# Altium footprint library RCDQLY.PCBLIB: 149 footprints (part 7 of 10)
Each footprint in its own frame and in the unit in brackets; x right, y up, seen from the top. Pads: shape width x height; smd on the part's side, far side on the other; paste and mask are expansions set on the pad; w line width, h text height; cw(c..) or ccw(c..) is an arc to the next point about the centre after c.
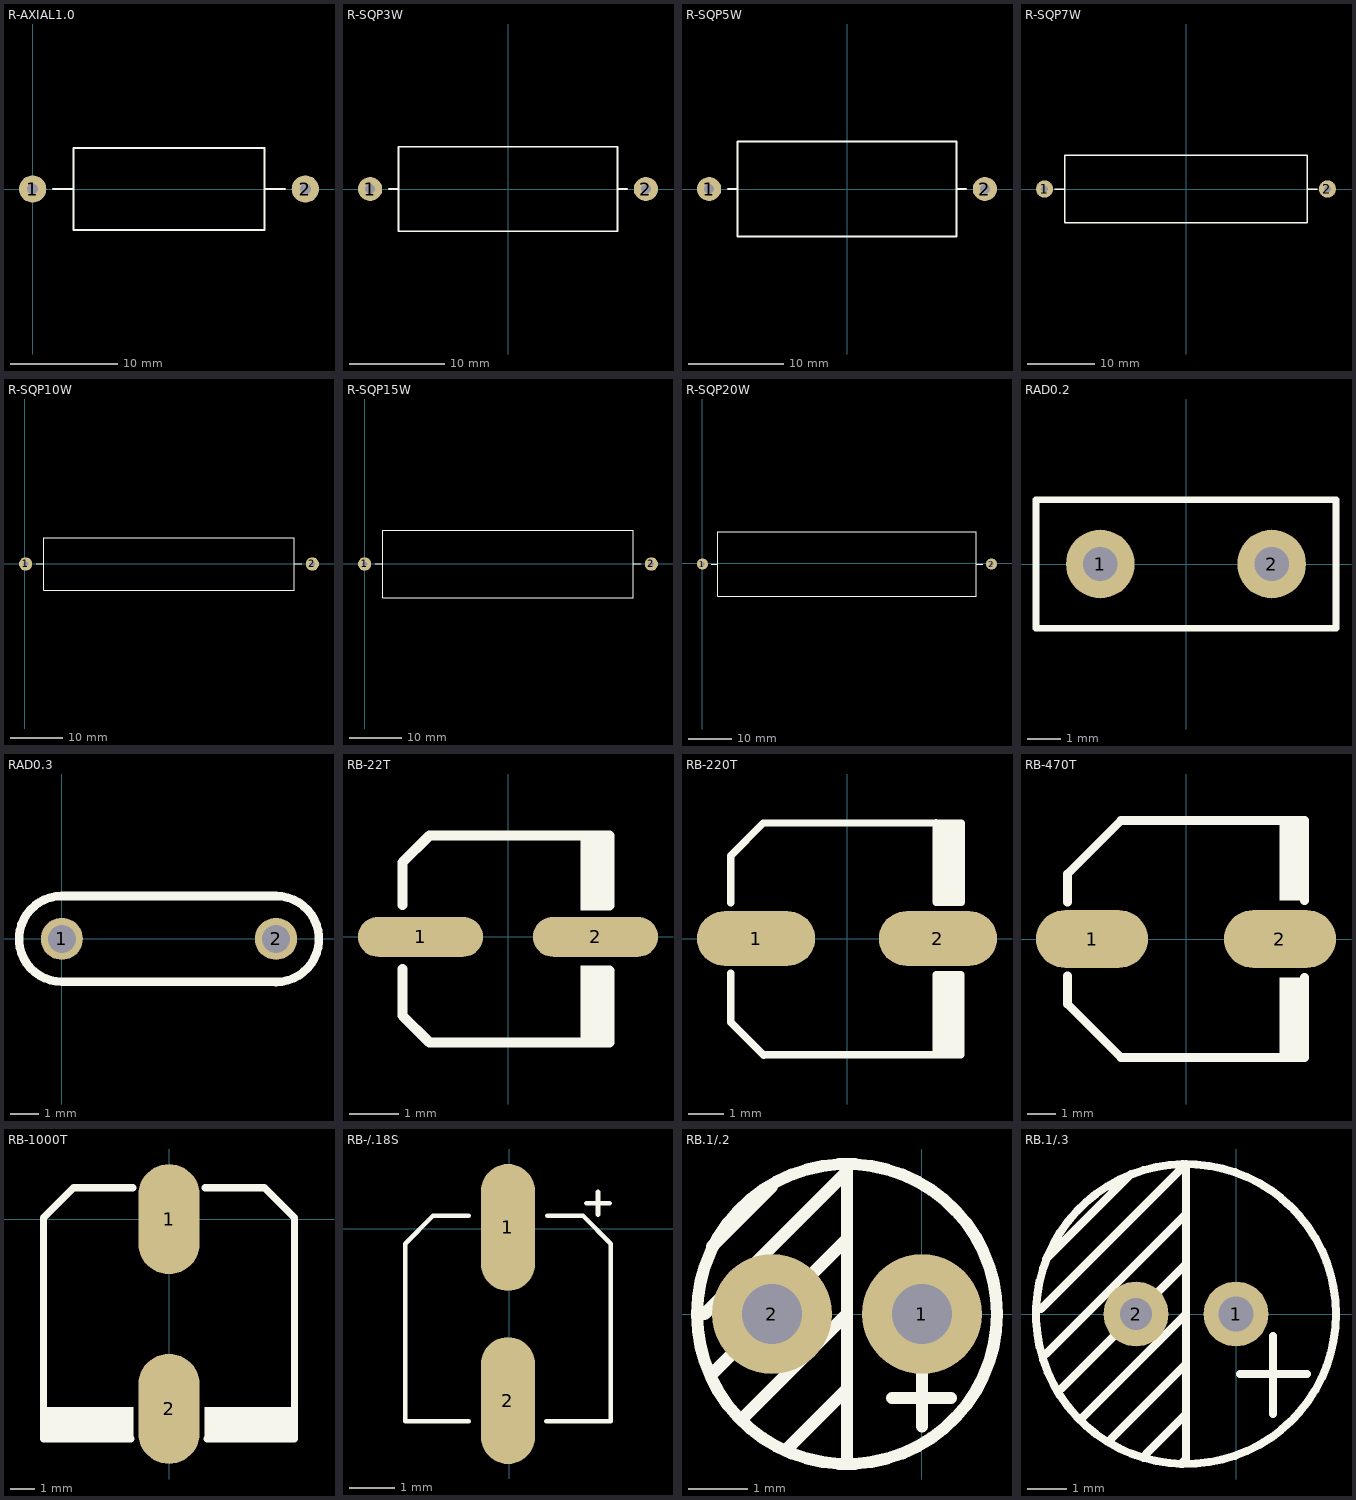
[diagram p6: the footprints below, top view; thin cyan lines are the x and y axes]

## R-AXIAL1.0 [mil]
pads (2):
  round 100 hole 40: 1(0,0) 2(1000,0)
TopOverlay:
  lines w8: 75,0 150,0 ; 850,0 925,0 ; 150,-150 150,150 850,150 850,-150 150,-150

## R-SQP3W [mil]
pads (2):
  round 100 hole 40: 1(-570.87,0) 2(570.87,0)
TopOverlay:
  lines w8: -492.13,0 -452.76,0 ; 452.76,0 492.13,0 ; -452.76,-175 452.76,-175 452.76,175 -452.76,175 -452.76,-175

## R-SQP5W [mil]
pads (2):
  round 100 hole 40: 1(-570.87,0) 2(570.87,0)
TopOverlay:
  lines w8: -492.13,0 -452.76,0 ; 452.76,0 492.13,0 ; -452.76,-196.85 -452.76,196.85 452.76,196.85 452.76,-196.85 -452.76,-196.85

## R-SQP7W [mil]
pads (2):
  round 100 hole 40: 1(-826.77,0) 2(826.77,0)
TopOverlay:
  lines w8: -767.72,0 -708.66,0 ; 708.66,0 767.72,0 ; -708.66,-196.85 708.66,-196.85 708.66,196.85 -708.66,196.85 -708.66,-196.85

## R-SQP10W [mil]
pads (2):
  round 100 hole 40: 1(4.82,-2.5) 2(2170.18,-2.5)
TopOverlay:
  lines w8: 83.56,-2.5 142.62,-2.5 ; 2032.38,-2.5 2091.44,-2.5 ; 142.62,-199.35 142.62,194.35 2032.38,194.35 2032.38,-199.35 142.62,-199.35

## R-SQP15W [mil]
pads (2):
  round 100 hole 40: 1(-0.18,-2.5) 2(2165.18,-2.5)
TopOverlay:
  lines w8: 78.56,-2.5 137.62,-2.5 ; 2027.38,-2.5 2086.44,-2.5 ; 137.62,-258.41 137.62,253.41 2027.38,253.41 2027.38,-258.41 137.62,-258.41

## R-SQP20W [mil]
pads (2):
  round 100 hole 40: 1(3.6,-5) 2(2641.4,-5)
TopOverlay:
  lines w8: 82.34,-5 141.4,-5 ; 2503.6,-5 2562.66,-5 ; 141.4,-300.28 141.4,290.28 2503.6,290.28 2503.6,-300.28 141.4,-300.28

## RAD0.2 [mil]
pads (2):
  round 80 hole 40: 1(-100,0) 2(100,0)
TopOverlay:
  lines w8: -175,-75 175,-75 175,75 -175,75 -175,-75

## RAD0.3 [mm]
pads (2):
  round 1.5 hole 1: 1(0,0) 2(7.62,0)
TopOverlay:
  lines w0.305: 7.62,-1.536 ccw(c7.62,-0.006) 7.62,1.524 0,1.524 ccw(c0,0) 0,-1.524 7.62,-1.524

## RB-22T [mil]
pads (2):
  oval 100x32 smd: 1(-70,0) 2(70,0)
TopOverlay:
  region: 81,-23 58,-23 58,-84.35 81,-84.35
  region: 81,81 58,81 58,21 81,21
  lines w8: -84.35,-25.65 -84.35,-63 -63,-84.35 81,-84.35 81,-27 ; -84.35,25.65 -84.35,59.65 -63,81 81,81 81,25

## RB-220T [mil]
pads (2):
  oval 130x60 smd: 1(-100,0) 2(100,0)
TopOverlay:
  region: 125.58,127.41 98,127.41 98,36 125.58,36
  region: 125.58,-36 98,-36 98,-128.5 125.58,-128.5
  lines w8: -128,-38 -128,-92 -91.51,-128.41 ; -128,39 -128,91 -92,127 126,127 126,40 ; -91,-128 125,-128 125,-40 ; 98,-128 98,-40 ; 98,40 98,127.41

## RB-470T [mil]
pads (2):
  oval 155x80 smd: 1(-130,0) 2(130,0)
TopOverlay:
  region: 129,164 129,53 164,53 164,164
  region: 164,-164 164,-53 129,-53 129,-164
  lines w12: -164,-51 -164,-90 -90,-164 164,-164 164,-53 ; -164,51 -164,90 -90,164 164,164 164,53

## RB-1000T [mil]
height 450
pads (2):
  oval 100x180 smd: 1(0,0) 2(0,-310)
TopOverlay:
  rectangle: -202.75,-358.11 -58,-307.17
  region: 202.75,-307.17 58,-307.17 58,-358.11 202.75,-358.11
  lines w12: -62,-359 -205,-359 -205,2 -156,51 -59,51 ; 59,51 156,51 205,2 205,-359 62,-359

## RB-/.18S [mil]
height 150
pads (2):
  oval 47x110 smd: 1(-1,1) 2(-1,-149)
TopOverlay:
  lines w4: -35,-167 -90,-167 -90,-13 -66,11 -35,11 ; 32,-167 88,-167 88,-13 64,11 33,11 ; 67,22 87,22 ; 77,12 77,32

## RB.1/.2 [mil]
pads (2):
  round 80 hole 40: 1(0,0) 2(-100,0)
TopOverlay:
  circle w8: c-50,0 r100
  lines w8: -145,0 -50,95 -50,-95 ; -140,-40 -50,50 ; -140,45 -100,85 ; -120,-70 -50,0 ; -90,-90 -50,-50 ; -20,-56 19.37,-56 ; 0,-75 0,-35

## RB.1/.3 [mil]
pads (2):
  round 65 hole 35: 1(0,0)
  round 65 hole 32: 2(-100,0)
TopOverlay:
  circle w8: c-50,0 r150
  lines w8: -195,5 -50,150 -50,-145 -55,-150 ; -190,-40 -50,100 ; -190,55 -105,140 ; -175,-75 -50,50 ; -155,-105 -50,0 ; -125,-125 -50,-50 ; -90,-140 -50,-100 ; 4,-60 71,-60 ; 37,-100 37,-22